# EAGLE library part RM?* (library relay)
Power Relay SCHRACK 3 pole 10 A, DC- or AC-coil Source: http://www.schrack.com/.. 5829.pdf Socket with PCB terminals Source: http://www.schrack.com/.. 5841.pdf
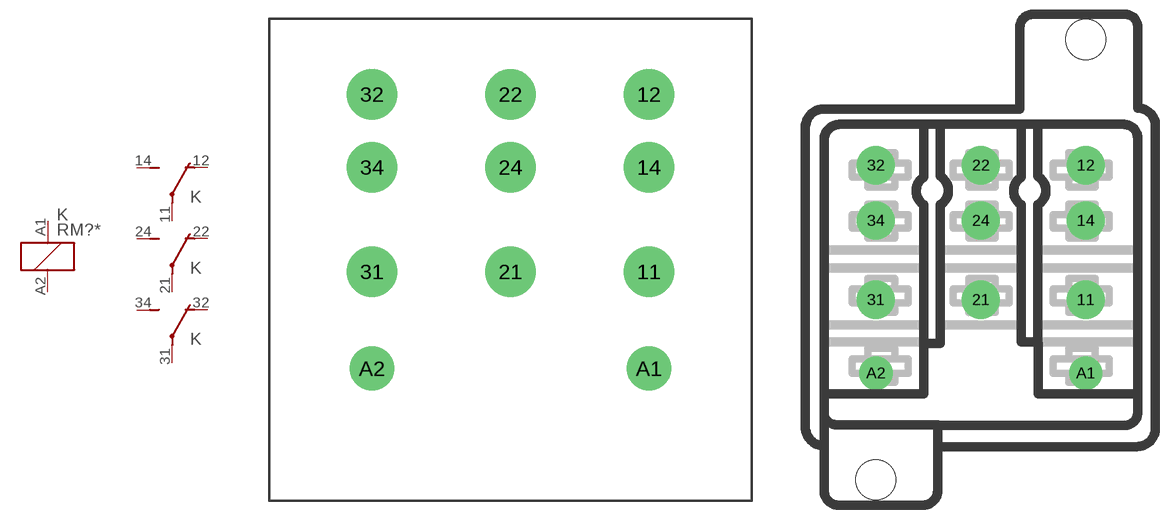
[diagram p130: symbol with the pads of RM-2/3/7; footprints RM-2/3/7, RM78702]

Designator prefix K; gates 1=K 2=U 3=U 4=U

## RM3506 (OC_FARNELL: unknown; OC_NEWARK: unknown), RM3512 (OC_FARNELL: unknown; OC_NEWARK: unknown), RM3524 (OC_FARNELL: unknown; OC_NEWARK: unknown), RM3548 (OC_FARNELL: unknown; OC_NEWARK: unknown), RM3615 (OC_FARNELL: unknown; OC_NEWARK: unknown), RM3730 (OC_FARNELL: unknown; OC_NEWARK: unknown), RM3900 (OC_FARNELL: unknown; OC_NEWARK: unknown), RM3R06 (OC_FARNELL: unknown; OC_NEWARK: unknown), RM3R12 (OC_FARNELL: unknown; OC_NEWARK: unknown), RM3R24 (OC_FARNELL: unknown; OC_NEWARK: unknown), RM3R48 (OC_FARNELL: unknown; OC_NEWARK: unknown), RM3S15 (OC_FARNELL: unknown; OC_NEWARK: unknown), RM3T30 (OC_FARNELL: unknown; OC_NEWARK: unknown), RM3V00 (OC_FARNELL: unknown; OC_NEWARK: unknown)  [RM-2/3/7]
11  2:P  pas
12  2:O  pas
14  2:S  pas
21  3:P  pas
22  3:O  pas
24  3:S  pas
31  4:P  pas
32  4:O  pas
34  4:S  pas
A1  1:1  pas
A2  1:2  pas

## RM7506 (OC_FARNELL: unknown; OC_NEWARK: unknown), RM7512 (OC_FARNELL: unknown; OC_NEWARK: unknown), RM7524 (OC_FARNELL: unknown; OC_NEWARK: unknown), RM7548 (OC_FARNELL: unknown; OC_NEWARK: unknown), RM7615 (OC_FARNELL: unknown; OC_NEWARK: unknown), RM7730 (OC_FARNELL: unknown; OC_NEWARK: unknown), RM7900 (OC_FARNELL: unknown; OC_NEWARK: unknown), RM7R06 (OC_FARNELL: unknown; OC_NEWARK: unknown), RM7R12 (OC_FARNELL: unknown; OC_NEWARK: unknown), RM7R24 (OC_FARNELL: unknown; OC_NEWARK: unknown), RM7R48 (OC_FARNELL: unknown; OC_NEWARK: unknown), RM7S15 (OC_FARNELL: unknown; OC_NEWARK: unknown), RM7T30 (OC_FARNELL: unknown; OC_NEWARK: unknown), RM7V00 (OC_FARNELL: unknown; OC_NEWARK: unknown)  [RM-2/3/7]
Pads as for RM-2/3/7

## RM78702 (MF: TYCO ELECTRONICS; MPN: RM78702; OC_FARNELL: 1652632; OC_NEWARK: 36K3468)  [RM78702]
Pads as for RM-2/3/7

## Footprint RM-2/3/7 (pad centres in mm)
Power Relay SCHRACK 2 / 3 pole 10 / 16 A, DC- or AC-coil Source: http://www.schrack.com/.. 5829.pdf
drill 2 pad 4: 11 11,-0.95; 12 11,13.15; 14 11,7.35; 21 0,-0.95; 22 0,13.15; 24 0,7.35; 31 -11,-0.95; 32 -11,13.15; 34 -11,7.35
drill 2 pad 3.5: A1 11,-8.65; A2 -11,-8.65

## Footprint RM78702 (pad centres in mm)
Power Relay Socket with PCB terminals SCHRACK 3 pole 10 A, DC- or AC-coil Source: http://www.schrack.com/.. 5841.pdf
drill 2 pad 4: 11 11,-0.95; 12 11,13.15; 14 11,7.35; 21 0,-0.95; 22 0,13.15; 24 0,7.35; 31 -11,-0.95; 32 -11,13.15; 34 -11,7.35
drill 2 pad 3.5: A1 11,-8.65; A2 -11,-8.65
hole 4.2 at -11,-19.85
hole 4.2 at 11,26.35